# Altium schematic symbol library DscLib.SchLib: 29 symbols
Pins are listed as number, name and electrical type; pins without a type are passive.

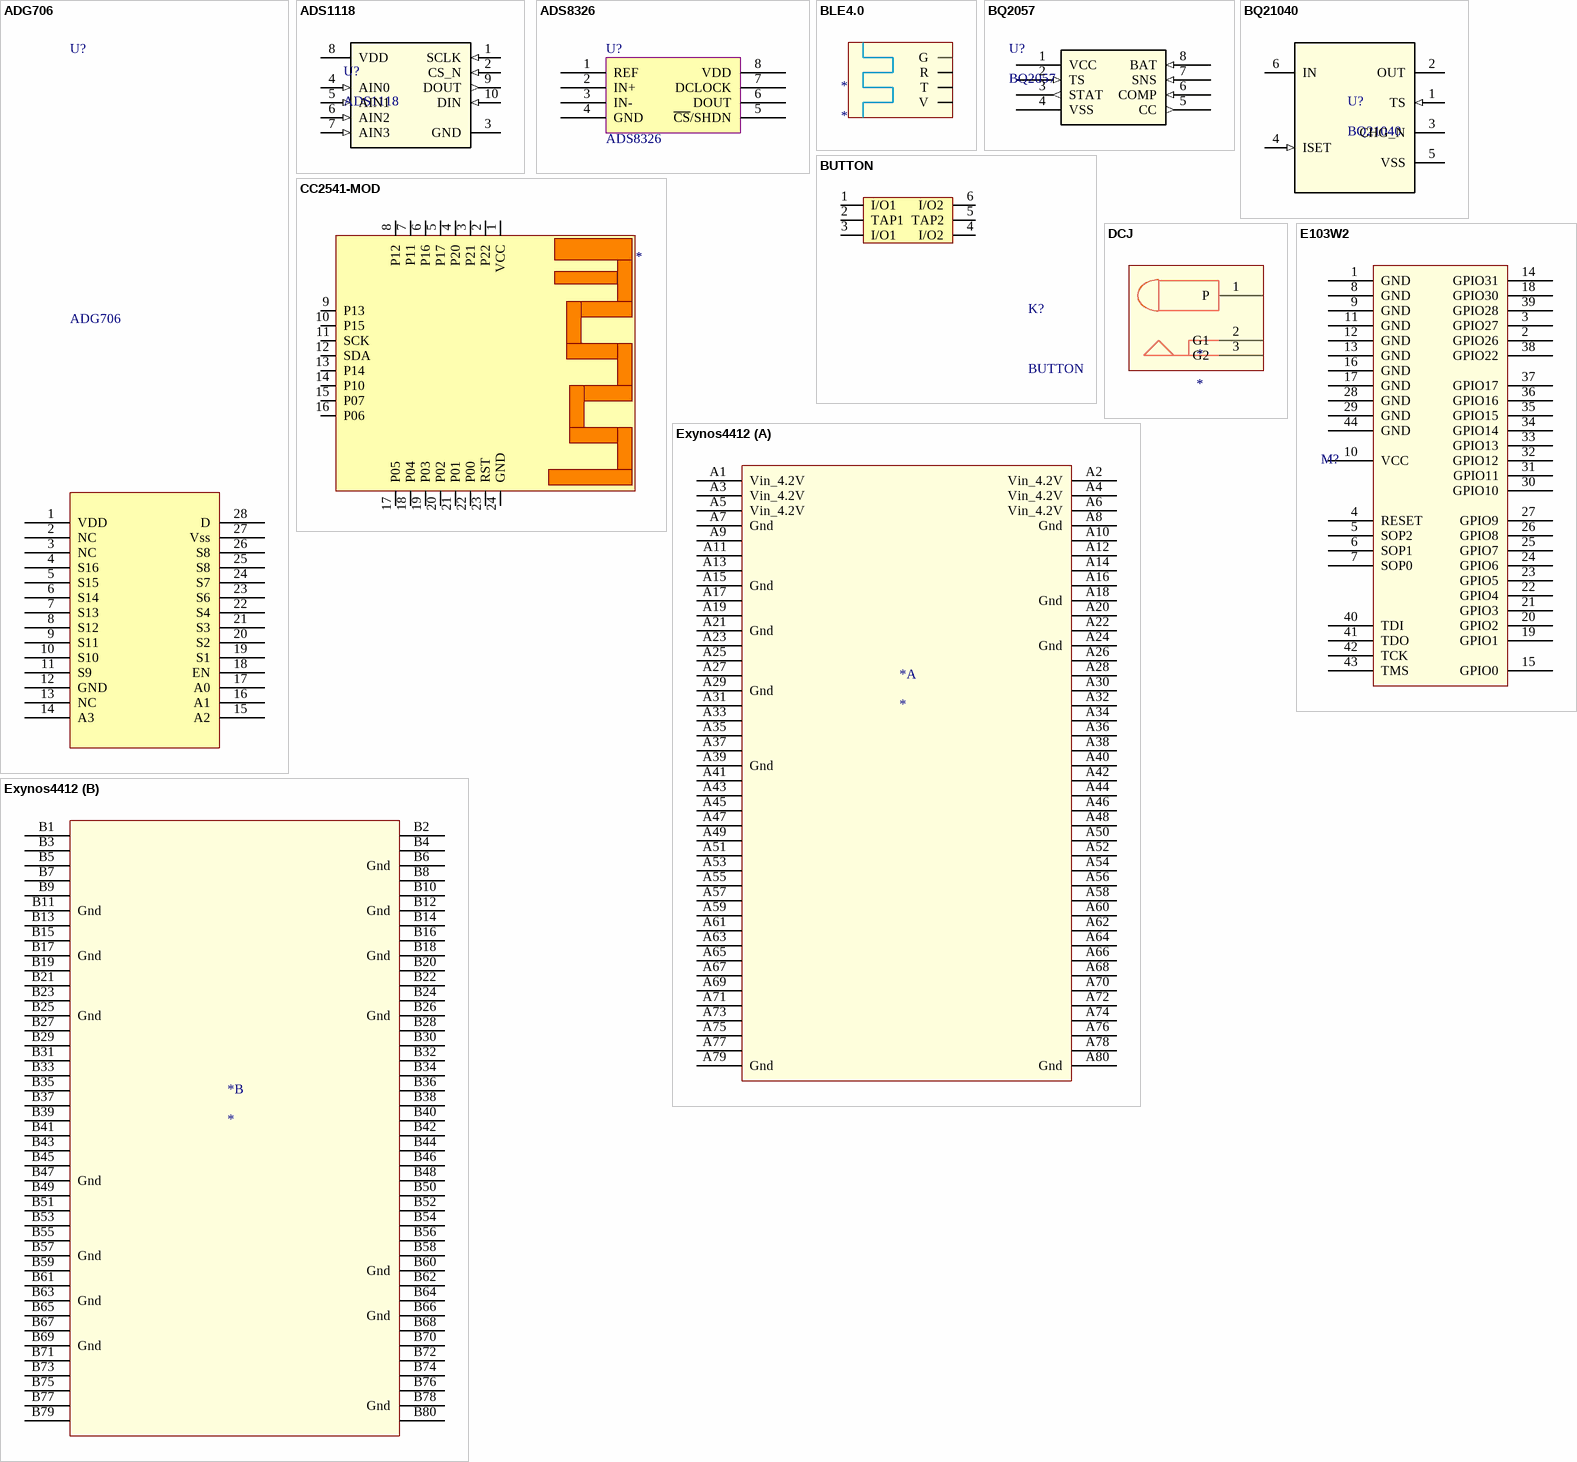
[diagram p0: symbols ADG706 to Exynos4412]

## ADG706
designator U?
footprint TSSOP-28
pins: 1 VDD, 2 NC, 3 NC, 4 S16, 5 S15, 6 S14, 7 S13, 8 S12, 9 S11, 10 S10, 11 S9, 12 GND, 13 NC, 14 A3, 15 A2, 16 A1, 17 A0, 18 EN, 19 S1, 20 S2, 21 S3, 22 S4, 23 S6, 24 S7, 25 S8, 26 S8, 27 Vss, 28 D

## ADS1118
designator U?
Adc; PartNumber: ADS1118QDGSRQ1; Manufacturer: Texas Instruments; RefDes: RefDes; TYPE: TYPE; Value: Value
footprint DGS0010A_N
pins: 1 SCLK (in), 2 CS_N (in), 3 GND (power), 4 AIN0 (in), 5 AIN1 (in), 6 AIN2 (in), 7 AIN3 (in), 8 VDD (power), 9 DOUT (out), 10 DIN (in)

## ADS8326
designator U?
footprint MSOP-8
pins: 1 REF, 2 IN+, 3 IN-, 4 GND, 5 ~{CS}/SHDN, 6 DOUT, 7 DCLOCK, 8 VDD

## BLE4.0
designator *
footprint BEL
pins: 1 G, 2 R, 3 T, 4 V

## BQ2057
designator U?
Li charger; Manufacturer: Texas Instruments; INDUSTRY_STD_PKG_TYPE: SOIC; FAMILY_NAME: BATTERY CHARGE MANAGEMENT; PIN_COUNT: 8; PACKAGE_DESIGNATOR: D; Datasheet_URL: http://www.ti.com/lit/gpn/BQ2057; GENERIC_PART_NUMBER: BQ2057; Value: Value; Type: Type; RefDes: RefDes
footprint D8
pins: 1 VCC (power), 2 TS (in), 3 STAT (out), 4 VSS (power), 5 CC (out), 6 COMP (in), 7 SNS (in), 8 BAT (in)

## BQ21040
designator U?
Li Charger; PartNumber: BQ21040DBVR; Manufacturer: Texas Instruments; RefDes: RefDes; TYPE: TYPE; Value: Value
footprint DBV0006A_N
pins: 1 TS (in), 2 OUT (power), 3 CHG_N (oc), 4 ISET (in), 5 VSS (power), 6 IN (power)

## BUTTON
designator K?
footprint BTN8.5*8.5 (8.5MM*8.5MM)
footprint BTN7*7 (7mm*7mm)
pins: 1 I/O1, 2 TAP1, 3 I/O1, 4 I/O2, 5 TAP2, 6 I/O2

## CC2541-MOD
designator ?
footprint JDY-08
pins: 1 VCC, 2 P22, 3 P21, 4 P20, 5 P17, 6 P16, 7 P11, 8 P12, 9 P13, 10 P15, 11 SCK, 12 SDA, 13 P14, 14 P10, 15 P07, 16 P06, 17 P05, 18 P04, 19 P03, 20 P02, 21 P01, 22 P00, 23 RST, 24 GND

## DCJ
designator *
footprint JACK-2_5MM_B
pins: 1 P, 2 G1, 3 G2

## E103W2
designator M?
WiFi; Manufacturer_Part_Number: tlc5916-q1_d_16; GENERIC_PART_NUMBER: TLC5916-Q1; Vendor: Texas Instruments; PACKAGE_DESIGNATOR: D; PIN_COUNT: 16; FAMILY_NAME: LED DRIVER; INDUSTRY_STD_PKG_TYPE: SOIC; Manufacturer: Texas Instruments; Datasheet_URL: http://www.ti.com/lit/gpn/TLC5916-Q1; Value: Value; Type: Type; RefDes: RefDes
footprint E103-W02
pins: 1 GND (power), 2 GPIO26, 3 GPIO27, 4 RESET, 5 SOP2, 6 SOP1, 7 SOP0, 8 GND (power), 9 GND (power), 10 VCC (power), 11 GND (power), 12 GND (power), 13 GND (power), 14 GPIO31, 15 GPIO0, 16 GND (power), 17 GND (power), 18 GPIO30, 19 GPIO1, 20 GPIO2, 21 GPIO3, 22 GPIO4, 23 GPIO5, 24 GPIO6, 25 GPIO7, 26 GPIO8, 27 GPIO9, 28 GND (power), 29 GND (power), 30 GPIO10, 31 GPIO11, 32 GPIO12, 33 GPIO13, 34 GPIO14, 35 GPIO15, 36 GPIO16, 37 GPIO17, 38 GPIO22, 39 GPIO28, 40 TDI, 41 TDO, 42 TCK, 43 TMS, 44 GND

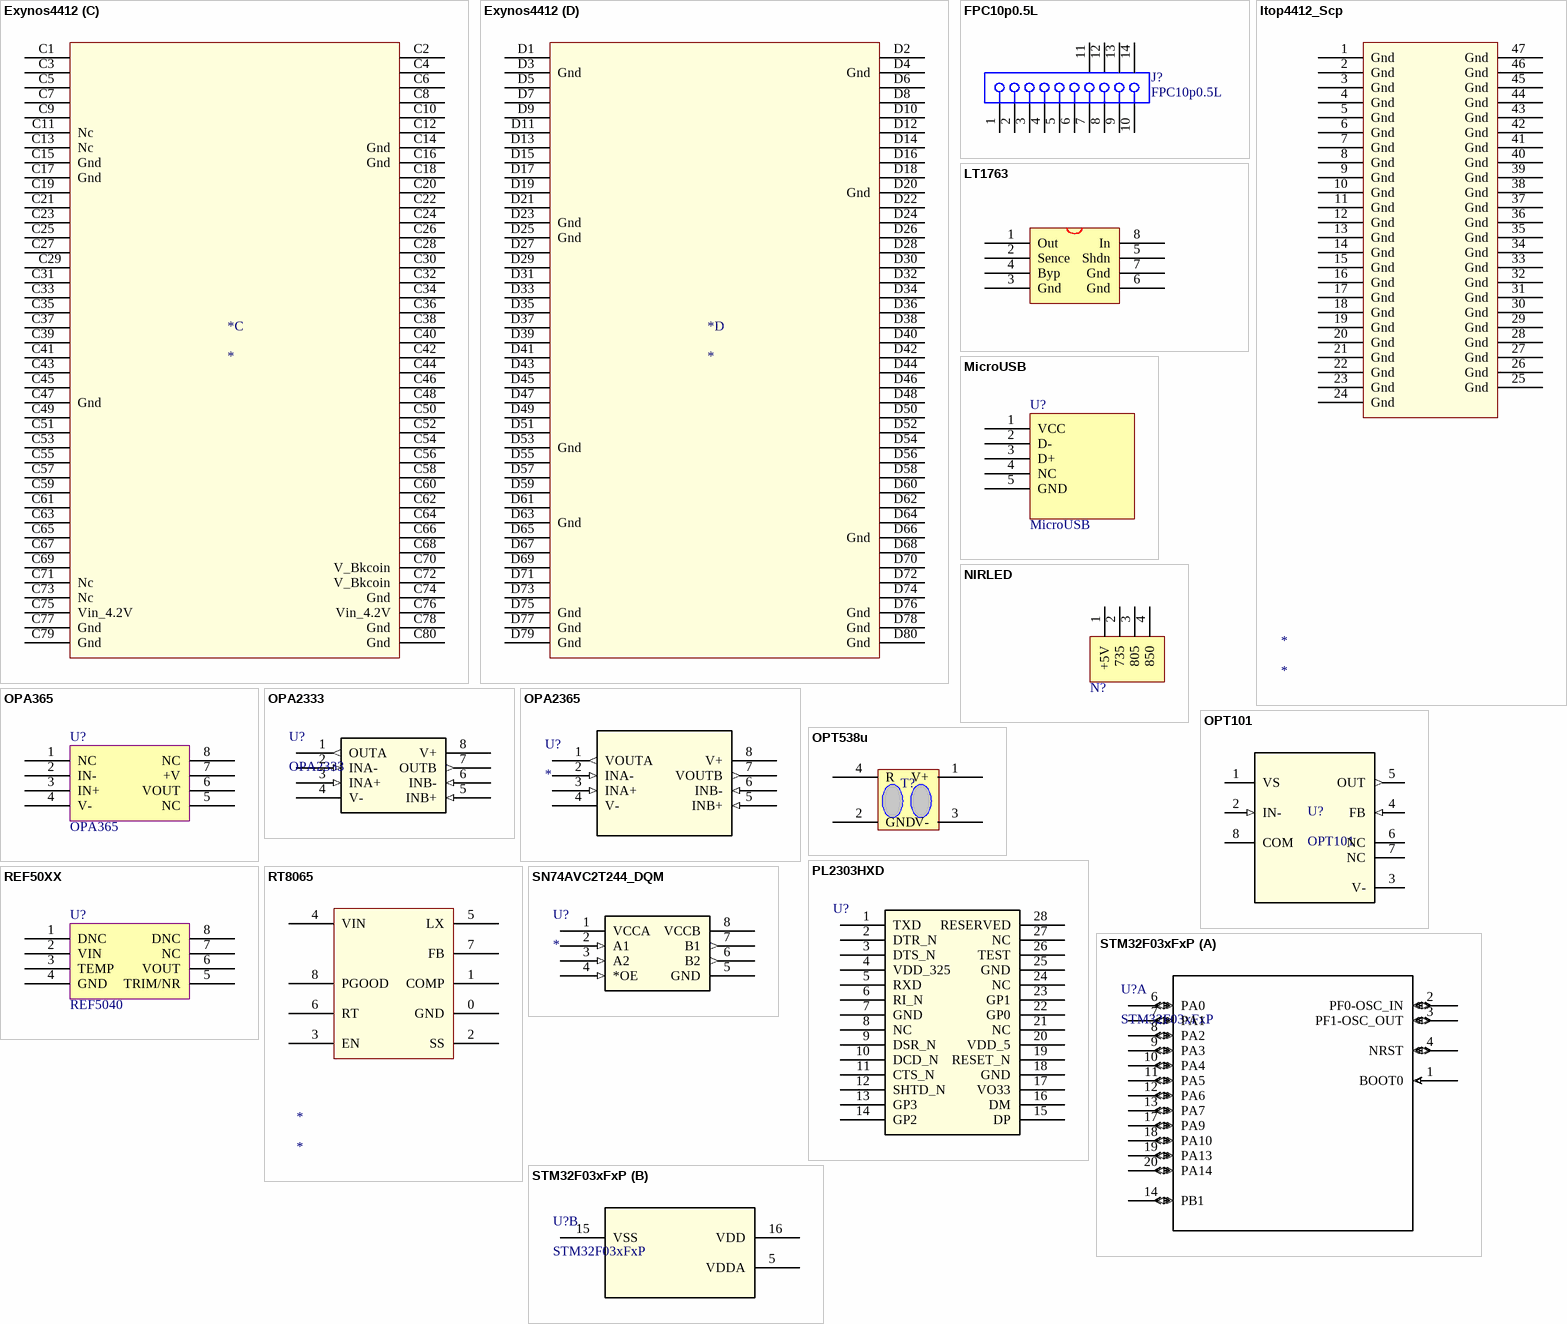
[diagram p1: symbols Exynos4412 to STM32F03xFxP]

## Exynos4412
designator *
footprint Exynos4412
part A pins: A1 Vin_4.2V, A2 Vin_4.2V, A3 Vin_4.2V, A4 Vin_4.2V, A5 Vin_4.2V, A6 Vin_4.2V, A7 Gnd, A8 Gnd, A9, A10, A11, A12, A13, A14, A15 Gnd, A16, A17, A18 Gnd, A19, A20, A21 Gnd, A22, A23, A24 Gnd, A25, A26, A27, A28, A29 Gnd, A30, A31, A32, A33, A34, A35, A36, A37, A38, A39 Gnd, A40, A41, A42, A43, A44, A45, A46, A47, A48, A49, A50, A51, A52, A53, A54, A55, A56, A57, A58, A59, A60, A61, A62, A63, A64, A65, A66, A67, A68, A69, A70, A71, A72, A73, A74, A75, A76, A77, A78, A79 Gnd, A80 Gnd
part B pins: B1, B2, B3, B4, B5, B6 Gnd, B7, B8, B9, B10, B11 Gnd, B12 Gnd, B13, B14, B15, B16, B17 Gnd, B18 Gnd, B19, B20, B21, B22, B23, B24, B25 Gnd, B26 Gnd, B27, B28, B29, B30, B31, B32, B33, B34, B35, B36, B37, B38, B39, B40, B41, B42, B43, B44, B45, B46, B47 Gnd, B48, B49, B50, B51, B52, B53, B54, B55, B56, B57 Gnd, B58, B59, B60 Gnd, B61, B62, B63 Gnd, B64, B65, B66 Gnd, B67, B68, B69 Gnd, B70, B71, B72, B73, B74, B75, B76, B77, B78 Gnd, B79, B80
part C pins: C1, C2, C3, C4, C5, C6, C7, C8, C9, C10, C11 Nc, C12, C13 Nc, C14 Gnd, C15 Gnd, C16 Gnd, C17 Gnd, C18, C19, C20, C21, C22, C23, C24, C25, C26, C27, C28, C29, C30, C31, C32, C33, C34, C35, C36, C37, C38, C39, C40, C41, C42, C43, C44, C45, C46, C47 Gnd, C48, C49, C50, C51, C52, C53, C54, C55, C56, C57, C58, C59, C60, C61, C62, C63, C64, C65, C66, C67, C68, C69, C70 V_Bkcoin, C71 Nc, C72 V_Bkcoin, C73 Nc, C74 Gnd, C75 Vin_4.2V, C76 Vin_4.2V, C77 Gnd, C78 Gnd, C79 Gnd, C80 Gnd
part D pins: D1, D2, D3 Gnd, D4 Gnd, D5, D6, D7, D8, D9, D10, D11, D12, D13, D14, D15, D16, D17, D18, D19, D20 Gnd, D21, D22, D23 Gnd, D24, D25 Gnd, D26, D27, D28, D29, D30, D31, D32, D33, D34, D35, D36, D37, D38, D39, D40, D41, D42, D43, D44, D45, D46, D47, D48, D49, D50, D51, D52, D53 Gnd, D54, D55, D56, D57, D58, D59, D60, D61, D62, D63 Gnd, D64, D65, D66 Gnd, D67, D68, D69, D70, D71, D72, D73, D74, D75 Gnd, D76 Gnd, D77 Gnd, D78 Gnd, D79 Gnd, D80 Gnd

## FPC10p0.5L
designator J?
FPC; Positions: 10; ContactMaterial: Phosphor Bronze; Current: 0.4A; PCB_Layout: Complies with manufacturer's recommendation.; Note: Pad dimensions follow nominal values, Suitable for Wave Soldering, Adjust for Re-flow.; Published: 17-Jul-2002; DatasheetDocument: 13-Nov-2000; PackageDocument: 13-Nov-2000; PackageReference: FH12-10S-0.5SV; Publisher: Altium Limited; ComponentLink1Description: Manufacturer Link; ComponentLink1URL: http://www.hiroseusa.com/; ComponentLink2Description: Datasheet; ComponentLink2URL: http://www.hirose.co.jp/cataloge_hp/e58605370.pdf
footprint FPC10p0.5L (Connector; FH12 Series; 10 Position; 0.5mm Spaced Vertical Mounting)
pins: 1, 2, 3, 4, 5, 6, 7, 8, 9, 10, 11 MH1, 12 MH2, 13 MH3, 14 MH4

## Itop4412_Scp
designator *
pins: 1 Gnd, 2 Gnd, 3 Gnd, 4 Gnd, 5 Gnd, 6 Gnd, 7 Gnd, 8 Gnd, 9 Gnd, 10 Gnd, 11 Gnd, 12 Gnd, 13 Gnd, 14 Gnd, 15 Gnd, 16 Gnd, 17 Gnd, 18 Gnd, 19 Gnd, 20 Gnd, 21 Gnd, 22 Gnd, 23 Gnd, 24 Gnd, 25 Gnd, 26 Gnd, 27 Gnd, 28 Gnd, 29 Gnd, 30 Gnd, 31 Gnd, 32 Gnd, 33 Gnd, 34 Gnd, 35 Gnd, 36 Gnd, 37 Gnd, 38 Gnd, 39 Gnd, 40 Gnd, 41 Gnd, 42 Gnd, 43 Gnd, 44 Gnd, 45 Gnd, 46 Gnd, 47 Gnd

## LT1763
designator U?
footprint SOP-8
pins: 1 Out, 2 Sence, 3 Gnd, 4 Byp, 5 Shdn, 6 Gnd, 7 Gnd, 8 In

## MicroUSB
designator U?
footprint USB/SM0.8-6H5
pins: 1 VCC, 2 D-, 3 D+, 4 NC, 5 GND

## NIRLED
designator N?
footprint SIP4
footprint OTP
pins: 1 +5V, 2 735, 3 805, 4 850

## OPA365
designator U?
footprint SO-8
pins: 1 NC, 2 IN-, 3 IN+, 4 V-, 5 NC, 6 VOUT, 7 +V, 8 NC

## OPA2333
designator U?
Amp; Manufacturer: Texas Instruments; GENERIC_PART_NUMBER: OPA2333-Q1; Manufacturer_Part_Number: opa2333-q1_d_8; INDUSTRY_STD_PKG_TYPE: SOIC; FAMILY_NAME: LOW OFFSET VOLTAGE; PIN_COUNT: 8; PACKAGE_DESIGNATOR: D; Datasheet_URL: http://www.ti.com/lit/gpn/OPA2333-Q1; Vendor: Texas Instruments; Value: Value; Type: Type; RefDes: RefDes
footprint D8
pins: 1 OUTA (out), 2 INA- (in), 3 INA+ (in), 4 V- (power), 5 INB+ (in), 6 INB- (in), 7 OUTB (out), 8 V+ (power)

## OPA2365
designator U?
Imported; Manufacturer: Texas Instruments; GENERIC_PART_NUMBER: OPA2365; Manufacturer_Part_Number: opa2365_d_8; INDUSTRY_STD_PKG_TYPE: SOIC; FAMILY_NAME: LOW OFFSET VOLTAGE; PIN_COUNT: 8; PACKAGE_DESIGNATOR: D; Datasheet_URL: http://www.ti.com/lit/gpn/OPA2365; Vendor: Texas Instruments; Value: Value; Type: Type; RefDes: RefDes
footprint D8-L
footprint D8
pins: 1 VOUTA (out), 2 INA- (in), 3 INA+ (in), 4 V- (power), 5 INB+ (in), 6 INB- (in), 7 VOUTB (out), 8 V+ (power)

## OPT101
designator U?
Sence; PartNumber: OPT101P-J; Manufacturer: Texas Instruments; CompType: IC; PIN_COUNT: 8; Application_BuildNumber: *; PackageReference: DTL0008A; MountType: SMT; RoHS: Y; RefDes: RefDes; TYPE: TYPE; Value: Value
footprint DTL0008A_N
footprint NTC8
pins: 1 VS (power), 2 IN- (in), 3 V- (power), 4 FB (in), 5 OUT (out), 6 NC, 7 NC, 8 COM

## OPT538u
designator T?
footprint OTP
pins: 1 V+, 2 GND, 3 V-, 4 R

## PL2303HXD
designator U?
Driver; Manufacturer_Part_Number: tlc5916-q1_d_16; GENERIC_PART_NUMBER: TLC5916-Q1; Vendor: Texas Instruments; PACKAGE_DESIGNATOR: D; PIN_COUNT: 16; FAMILY_NAME: LED DRIVER; INDUSTRY_STD_PKG_TYPE: SOIC; Manufacturer: Texas Instruments; Datasheet_URL: http://www.ti.com/lit/gpn/TLC5916-Q1; Value: Value; Type: Type; RefDes: RefDes
footprint SSOP28 (SOP, 16-Leads, Body 6.2x5.3mm, Pitch 0.65mm, IPC Medium Density)
pins: 1 TXD (power), 2 DTR_N (power), 3 DTS_N (power), 4 VDD_325 (power), 5 RXD (power), 6 RI_N (power), 7 GND (power), 8 NC (power), 9 DSR_N (power), 10 DCD_N (power), 11 CTS_N (power), 12 SHTD_N (power), 13 GP3 (power), 14 GP2 (power), 15 DP (power), 16 DM (power), 17 VO33 (power), 18 GND (power), 19 RESET_N (power), 20 VDD_5 (power), 21 NC (power), 22 GP0 (power), 23 GP1 (power), 24 NC (power), 25 GND (power), 26 TEST (power), 27 NC (power), 28 RESERVED (power)

## REF50XX
designator U?, comment REF5040
footprint SO-8
pins: 1 DNC, 2 VIN, 3 TEMP, 4 GND, 5 TRIM/NR, 6 VOUT, 7 NC, 8 DNC

## RT8065
designator *
footprint PSOP-8
pins: 0 GND, 1 COMP, 2 SS, 3 EN, 4 VIN, 5 LX, 6 RT, 7 FB, 8 PGOOD

## SN74AVC2T244_DQM
designator U?
Imported; Manufacturer_Part_Number: sn74avc2t244_dqe_8; GENERIC_PART_NUMBER: SN74AVC2T244; Vendor: Texas Instruments; PACKAGE_DESIGNATOR: DQE; PIN_COUNT: 8; FAMILY_NAME: DIRECTION CONTROL DUAL SUPPLY TRANSLATOR; INDUSTRY_STD_PKG_TYPE: X2SON; Manufacturer: Texas Instruments; Datasheet_URL: http://www.ti.com/lit/gpn/SN74AVC2T244; Value: Value; Type: Type; RefDes: RefDes
footprint DQM8
pins: 1 VCCA (power), 2 A1 (in), 3 A2 (in), 4 *OE (in), 5 GND (power), 6 B2 (out), 7 B1 (out), 8 VCCB (power)

## STM32F03xFxP
designator U?
Mcu; Vendor: STMicroelectronics; C: Copyright (C) 2016 Accelerated Designs. All rights reserved; Copyright: Copyright (C) 2016 Accelerated Designs. All rights reserved; Manufacturer_Part_Number: stm32f03xfxp; RefDes: RefDes; Type: Type; Value: Value
footprint TSSOP20
part A pins: 1 BOOT0 (in), 2 PF0-OSC_IN (io), 3 PF1-OSC_OUT (io), 4 NRST (io), 6 PA0 (io), 7 PA1 (io), 8 PA2 (io), 9 PA3 (io), 10 PA4 (io), 11 PA5 (io), 12 PA6 (io), 13 PA7 (io), 14 PB1 (io), 17 PA9 (io), 18 PA10 (io), 19 PA13 (io), 20 PA14 (io)
part B pins: 5 VDDA (power), 15 VSS (power), 16 VDD (power)

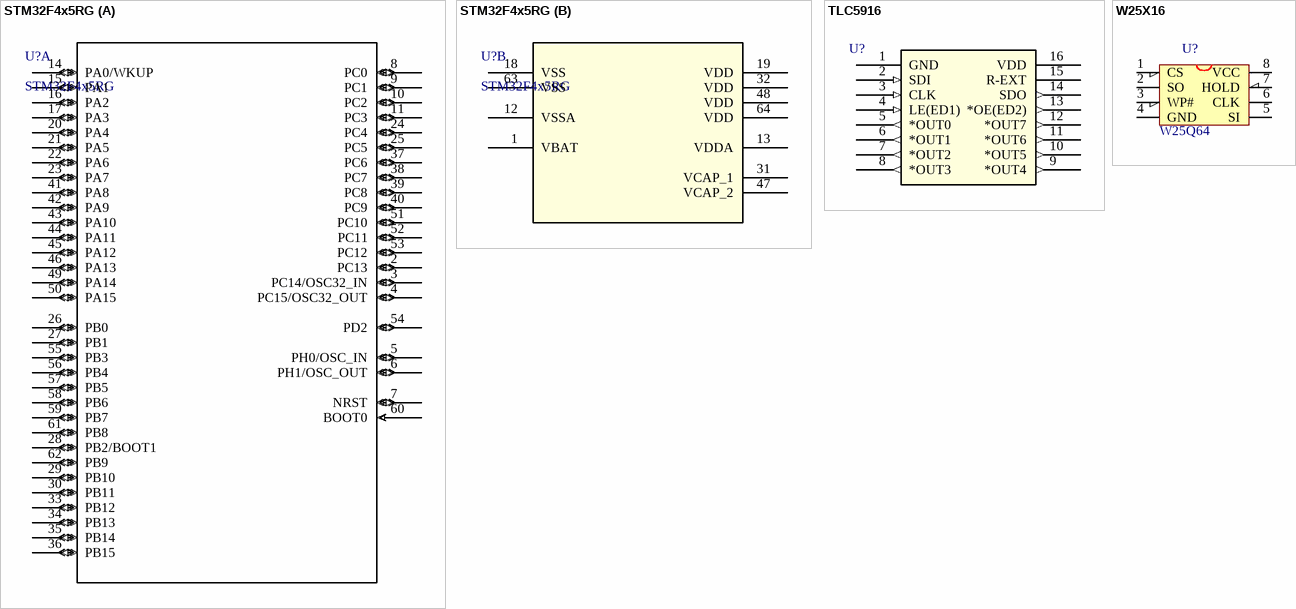
[diagram p2: symbols STM32F4x5RG to W25X16]

## STM32F4x5RG
designator U?
Mcu; Vendor: STMicroelectronics; C: Copyright (C) 2016 Accelerated Designs. All rights reserved; Manufacturer_Part_Number: stm32f4x5rg; Copyright: Copyright (C) 2016 Accelerated Designs. All rights reserved; RefDes: RefDes; Type: Type; Value: Value
footprint LQFP64-10x10mm
part A pins: 2 PC13 (io), 3 PC14/OSC32_IN (io), 4 PC15/OSC32_OUT (io), 5 PH0/OSC_IN (io), 6 PH1/OSC_OUT (io), 7 NRST (io), 8 PC0 (io), 9 PC1 (io), 10 PC2 (io), 11 PC3 (io), 14 PA0/WKUP (io), 15 PA1 (io), 16 PA2 (io), 17 PA3 (io), 20 PA4 (io), 21 PA5 (io), 22 PA6 (io), 23 PA7 (io), 24 PC4 (io), 25 PC5 (io), 26 PB0 (io), 27 PB1 (io), 28 PB2/BOOT1 (io), 29 PB10 (io), 30 PB11 (io), 33 PB12 (io), 34 PB13 (io), 35 PB14 (io), 36 PB15 (io), 37 PC6 (io), 38 PC7 (io), 39 PC8 (io), 40 PC9 (io), 41 PA8 (io), 42 PA9 (io), 43 PA10 (io), 44 PA11 (io), 45 PA12 (io), 46 PA13 (io), 49 PA14 (io), 50 PA15 (io), 51 PC10 (io), 52 PC11 (io), 53 PC12 (io), 54 PD2 (io), 55 PB3 (io), 56 PB4 (io), 57 PB5 (io), 58 PB6 (io), 59 PB7 (io), 60 BOOT0 (in), 61 PB8 (io), 62 PB9 (io)
part B pins: 1 VBAT (power), 12 VSSA (power), 13 VDDA (power), 18 VSS (power), 19 VDD (power), 31 VCAP_1 (power), 32 VDD (power), 47 VCAP_2 (power), 48 VDD (power), 63 VSS (power), 64 VDD (power)

## TLC5916
designator U?
Driver; Manufacturer_Part_Number: tlc5916-q1_d_16; GENERIC_PART_NUMBER: TLC5916-Q1; Vendor: Texas Instruments; PACKAGE_DESIGNATOR: D; PIN_COUNT: 16; FAMILY_NAME: LED DRIVER; INDUSTRY_STD_PKG_TYPE: SOIC; Manufacturer: Texas Instruments; Datasheet_URL: http://www.ti.com/lit/gpn/TLC5916-Q1; Value: Value; Type: Type; RefDes: RefDes
footprint D16
pins: 1 GND (power), 2 SDI (in), 3 CLK (in), 4 LE(ED1) (in), 5 *OUT0 (out), 6 *OUT1 (out), 7 *OUT2 (out), 8 *OUT3 (out), 9 *OUT4 (out), 10 *OUT5 (out), 11 *OUT6 (out), 12 *OUT7 (out), 13 *OE(ED2) (out), 14 SDO (out), 15 R-EXT, 16 VDD (power)

## W25X16
designator U?, comment W25Q64
W25X16;SST25VF016;MX25L1605
footprint SOIC-8 (SOIC)
pins: 1 CS, 2 SO, 3 WP#, 4 GND, 5 SI, 6 CLK, 7 HOLD, 8 VCC